# EAGLE library part LE-MM101 (library SmallRoomLabs)
20 mm LED Matrix 1.9mm LEDs 20x20mm package (Sure Electronics)
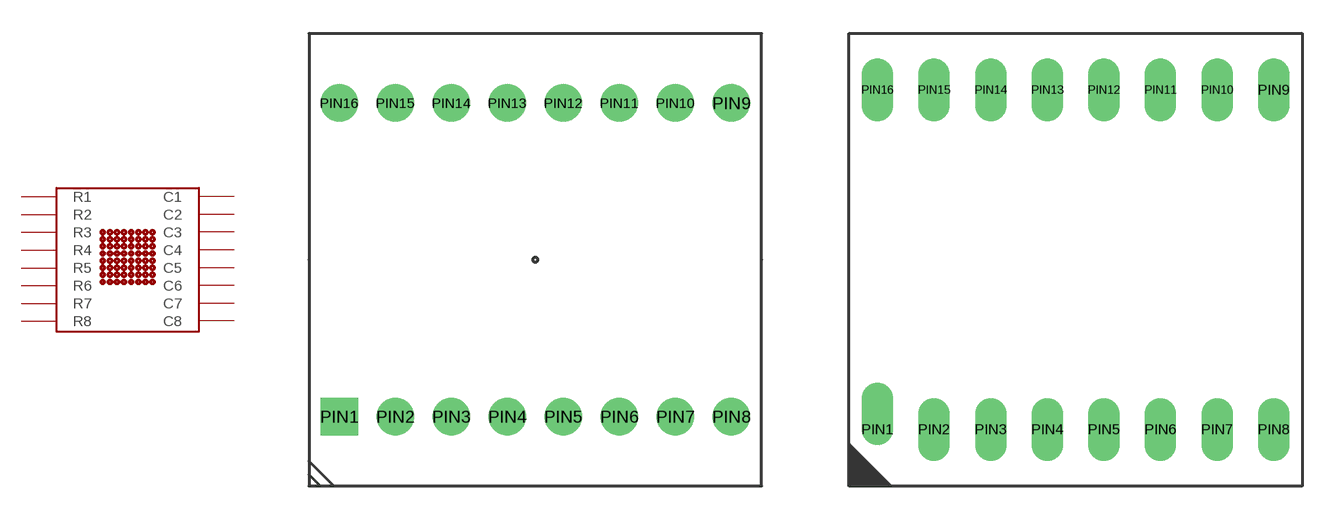
[diagram p0: symbol with the pads of LEDMATRIX-20MM; footprints LEDMATRIX-20MM, LEDMATRIX-20MM-A]

Designator prefix -

## LE-MM101  [LEDMATRIX-20MM]
PIN1  R5
PIN2  R7
PIN3  C2
PIN4  C3
PIN5  R8
PIN6  C5
PIN7  R6
PIN8  R3
PIN9  R1
PIN10  C4
PIN11  C6
PIN12  R4
PIN13  C1
PIN14  R2
PIN15  C7
PIN16  C8

## LE-MM101STD  [LEDMATRIX-20MM-A]
Pads as for LEDMATRIX-20MM

## Footprint LEDMATRIX-20MM (pad centres in mm)
drill 0.6 pad 1.676 square: PIN1 -8.75,-7
drill 0.6 pad 1.676 round: PIN2 -6.25,-7; PIN3 -3.75,-7; PIN4 -1.25,-7; PIN5 1.25,-7; PIN6 3.75,-7; PIN7 6.25,-7; PIN8 8.75,-7; PIN9 8.75,7; PIN10 6.25,7; PIN11 3.75,7; PIN12 1.25,7; PIN13 -1.25,7; PIN14 -3.75,7; PIN15 -6.25,7; PIN16 -8.75,7

## Footprint LEDMATRIX-20MM-A (pad centres in mm)
drill 0.9 offset: PIN1 -7.62,-7.62
drill 0.9 long: PIN2 -5.08,-7.62; PIN3 -2.54,-7.62; PIN4 0,-7.62; PIN5 2.54,-7.62; PIN6 5.08,-7.62; PIN7 7.62,-7.62; PIN8 10.16,-7.62; PIN9 10.16,7.62; PIN10 7.62,7.62; PIN11 5.08,7.62; PIN12 2.54,7.62; PIN13 0,7.62; PIN14 -2.54,7.62; PIN15 -5.08,7.62; PIN16 -7.62,7.62